# Altium footprint library Pressure Sensors, Transducers.PcbLib: 1 footprints
Each footprint in its own frame and in the unit in brackets; x right, y up, seen from the top. Pads: shape width x height; smd on the part's side, far side on the other; paste and mask are expansions set on the pad; w line width, h text height; cw(c..) or ccw(c..) is an arc to the next point about the centre after c.
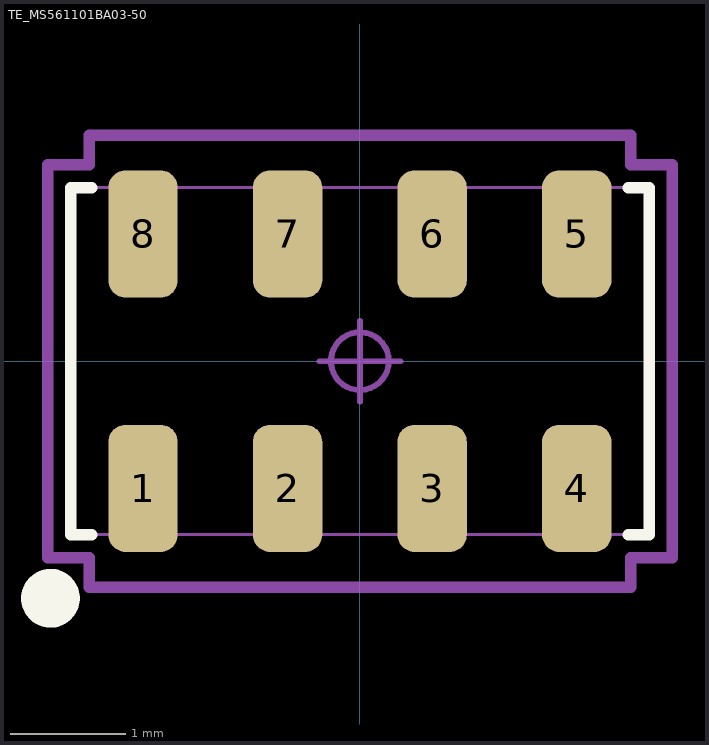
[diagram p0: the footprint, top view; thin cyan lines are the x and y axes]

## TE_MS561101BA03-50 [mm]
height 1.1
pads (8):
  rrect49% 0.6x1.1 smd mask+0.04: 1(-1.875,-1.1) 2(-0.625,-1.1) 3(0.625,-1.1) 4(1.875,-1.1) 5(1.875,1.1) 6(0.625,1.1) 7(-0.625,1.1) 8(-1.875,1.1)
Top Overlay:
  circle w0.254: c-2.675,-2.05 r0.127
  lines w0.1: -2.32,-1.5 -2.5,-1.5 -2.5,1.5 -2.32,1.5 ; 2.32,-1.5 2.5,-1.5 2.5,1.5 2.32,1.5
Mechanical 13:
  lines w0.025: -2.5,-1.5 2.5,-1.5 2.5,1.5 -2.5,1.5 -2.5,-1.5 ; -2.125,-1.5 -2.125,-0.6 -1.625,-0.6 -1.625,-1.5 -2.125,-1.5 ; -2.125,0.6 -1.625,0.6 -1.625,1.5 -2.125,1.5 -2.125,0.6 ; -0.875,-1.5 -0.875,-0.6 -0.375,-0.6 -0.375,-1.5 -0.875,-1.5 ; -0.875,0.6 -0.875,1.5 -0.375,1.5 -0.375,0.6 -0.875,0.6 ; 0.375,-1.5 0.875,-1.5 0.875,-0.6 0.375,-0.6 0.375,-1.5 ; 0.375,0.6 0.375,1.5 0.875,1.5 0.875,0.6 0.375,0.6 ; 1.625,-1.5 2.125,-1.5 2.125,-0.6 1.625,-0.6 1.625,-1.5 ; 1.625,0.6 2.125,0.6 2.125,1.5 1.625,1.5 1.625,0.6
Mechanical 15:
  circle w0.05: c0,0 r0.25
  lines w0.05: -0.35,0 0.35,0 ; 0,-0.35 0,0.35
  lines w0.1: -2.7,-1.7 -2.34,-1.7 -2.34,-1.955 2.34,-1.955 2.34,-1.7 2.7,-1.7 2.7,1.7 2.34,1.7 2.34,1.955 -2.34,1.955 -2.34,1.7 -2.7,1.7 -2.7,-1.7
3D body "c-ms561101ba03-50-1-3d.step": height 1, standoff 0.05, extent -2.5,-1.5 2.5,1.5